# EAGLE library part 74*175 (library 74ttl-din)
Qadruple D type FLIP FLOP, clear
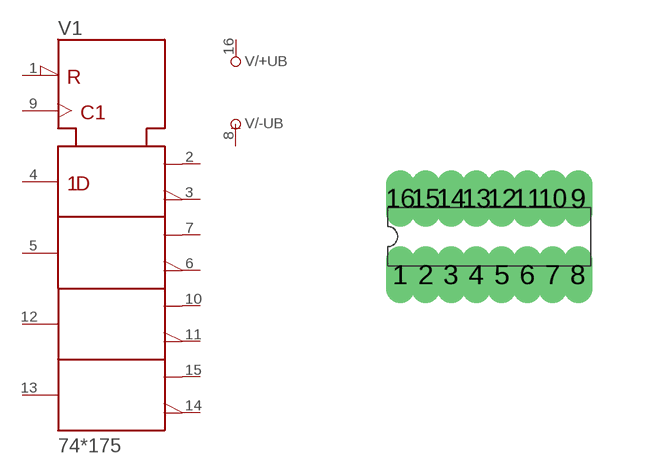
[diagram p57: symbol with the pads of DIL16; footprint DIL16]

Designator prefix V; gates /+UB=+UB /-UB=-UB 1=175

## 74175N  [DIL16]
1  1:!CLR  in
2  1:1Q  out
3  1:!1Q  out
4  1:1D  in
5  1:2D  in
6  1:!2Q  out
7  1:2Q  out
8  /-UB:-UB  pwr
9  1:CLK  in
10  1:3Q  out
11  1:!3Q  out
12  1:3D  in
13  1:4D  in
14  1:!4Q  out
15  1:4Q  out
16  /+UB:+UB  pwr

## Footprint DIL16 (pad centres in mm)
Dual In Line Package
drill 0.203 long: 1 -2.223,-0.953; 2 -1.587,-0.953; 3 -0.953,-0.953; 4 -0.318,-0.953; 5 0.318,-0.953; 6 0.953,-0.953; 7 1.587,-0.953; 8 2.223,-0.953; 9 2.223,0.953; 10 1.587,0.953; 11 0.953,0.953; 12 0.318,0.953; 13 -0.318,0.953; 14 -0.953,0.953; 15 -1.587,0.953; 16 -2.223,0.953